# EAGLE library part MOMO-SENSOR-RJ11-VERT (library components)
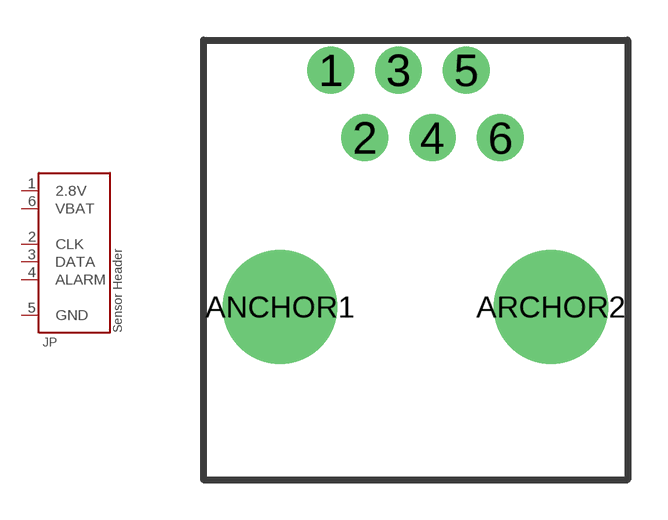
[diagram p33: symbol with the pads of RJ12-VERT; footprint RJ12-VERT]

Designator prefix JP

## MOMO-SENSOR-RJ11-VERT (DESCRIPTION: Vertical Mount RJ-12 Receptacle; DIGIKEY-PN: AE10391-ND; FOOTPRINT: Through Hole)  [RJ12-VERT]
1  2.8V
2  CLK
3  DATA
4  ALARM
5  GND
6  VBAT

## Footprint RJ12-VERT (pad centres in mm)
Vertical RJ-12 Connector, digikey pn: AE10391-ND
drill 1.17: 1 -3.175,8.89; 2 -1.905,6.35; 3 -0.635,8.89; 4 0.635,6.35; 5 1.905,8.89; 6 3.175,6.35
drill 3.27: ANCHOR1 -5.08,0; ARCHOR2 5.08,0